# EAGLE library part DS3658 (library ASL)
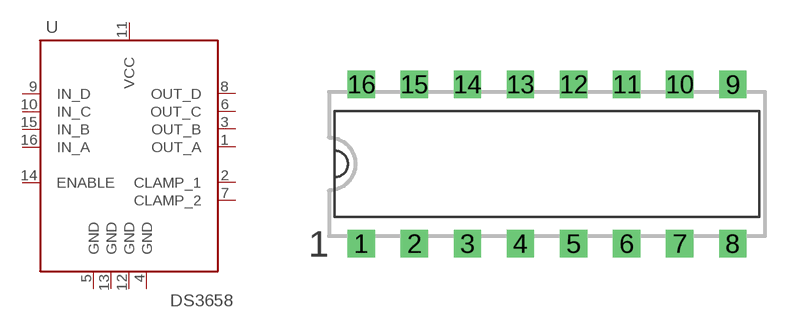
[diagram p18: symbol with the pads of DIP16; footprint DIP16]

Designator prefix U

## DS3658  [DIP16]
1  OUT_A
2  CLAMP_1
3  OUT_B
4  GND
5  GND
6  OUT_C
7  CLAMP_2
8  OUT_D
9  IN_D
10  IN_C
11  VCC
12  GND
13  GND
14  ENABLE
15  IN_B
16  IN_A

## Footprint DIP16 (pad centres in mm)
SMD DIL16 dual in line package
drill 0.8 square: 1 -8.89,-3.81; 2 -6.35,-3.81; 3 -3.81,-3.81; 4 -1.27,-3.81; 5 1.27,-3.81; 6 3.81,-3.81; 7 6.35,-3.81; 8 8.89,-3.81; 9 8.89,3.81; 10 6.35,3.81; 11 3.81,3.81; 12 1.27,3.81; 13 -1.27,3.81; 14 -3.81,3.81; 15 -6.35,3.81; 16 -8.89,3.81